# Altium schematic symbol library VL53L8CXV0GC_1.SchLib: 1 symbol
Pins are listed as number, name and electrical type; pins without a type are passive.

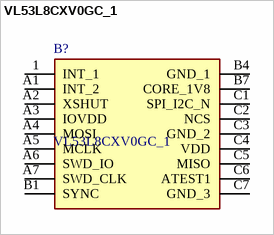
[diagram p0: symbol VL53L8CXV0GC_1]

## VL53L8CXV0GC_1
designator B?
Low-power high-performance 8x8 multizone Time-of-Flight sensor 940 nm, 6.4x3.0x1.75 mm, -30 to 85C; Manufacturer_Name: STMicroelectronics; Manufacturer_Part_Number: VL53L8CXV0GC/1; Geometry.Height: 1.8mm; Mouser Part Number: 511-VL53L8CXV0GC/1; Mouser Price/Stock: https://www.mouser.co.uk/ProductDetail/STMicroelectronics/VL53L8CXV0GC-1?qs=T%252BzbugeAwjhc9idkQC%252BF8g%3D%3D; Datasheet Link: https://www.st.com/resource/en/datasheet/vl53l8cx.pdf
footprint VL53L8CXV0GC1
pins: 1 INT_1, A1 INT_2, A2 XSHUT, A3 IOVDD, A4 MOSI, A5 MCLK, A6 SWD_IO, A7 SWD_CLK, B1 SYNC, B4 GND_1, B7 CORE_1V8, C1 SPI_I2C_N, C2 NCS, C3 GND_2, C4 VDD, C5 MISO, C6 ATEST1, C7 GND_3